# Altium footprint library PcbLib1.PcbLib: 39 footprints (part 3 of 3)
Each footprint in its own frame and in the unit in brackets; x right, y up, seen from the top. Pads: shape width x height; smd on the part's side, far side on the other; paste and mask are expansions set on the pad; w line width, h text height; cw(c..) or ccw(c..) is an arc to the next point about the centre after c.
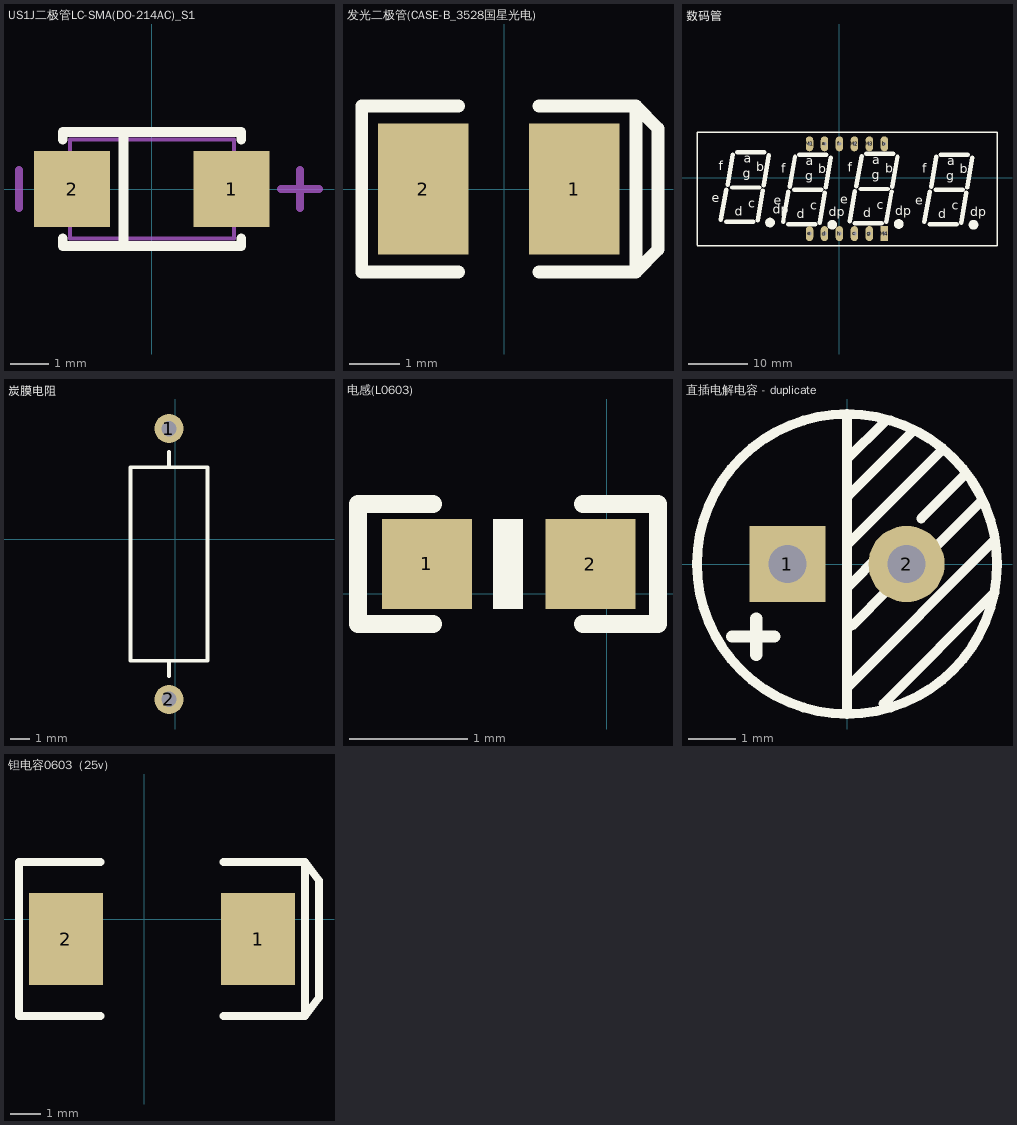
[diagram p2: the footprints below, top view; thin cyan lines are the x and y axes]

## US1J二极管LC-SMA(DO-214AC)_S1 [mm]
height 2.65
pads (2):
  rect 2x2 smd: 1(2.1,0) 2(-2.1,0)
Top Overlay:
  lines w0.254: -2.35,-1.3 -2.35,-1.5 2.35,-1.5 2.35,-1.3 ; -2.35,1.3 -2.35,1.5 2.35,1.5 2.35,1.3 ; -0.75,-1.5 -0.75,1.5
Mechanical 13:
  lines w0.1: -2.16,-1.3 -2.16,1.3 2.16,1.3 2.16,-1.3 -2.16,-1.3
Mechanical 15:
  lines w0.203: -3.5,-0.5 -3.5,0.5 ; 3.4,0 4.4,0 ; 3.9,-0.5 3.9,0.5

## 发光二极管(CASE-B_3528国星光电) [mm]
pads (2):
  rect 1.8x2.6 smd: 1(1.397,0) 2(-1.603,0)
Top Overlay:
  lines w0.254: -0.903,-1.65 -2.83,-1.65 -2.83,1.65 -0.903,1.65 ; 0.697,-1.65 2.624,-1.65 ; 0.697,1.65 2.624,1.65 ; 2.624,-1.65 3.06,-1.2 3.06,1.2 2.624,1.65 ; 2.624,-1.65 2.624,1.65
3D body "User Library-AVX_BCASE.STEP": height 2.03, standoff 0, extent -1.953,-1.465 1.747,1.465

## 数码管 [mil]
pads (12):
  oval 50x100 hole 25: a(-98,227) b(302,227) c(102,-373) d(-98,-373) e(-198,-373) f(2,227) g(202,-373) h(2,-373) M1(-198,227) M2(102,227) M3(202,227)
  rect 50x100 hole 25: M4(302,-373)
Top Overlay:
  circle w40: c898,-314 r12
  circle w40: c398,-309 r12
  circle w40: c-462,-299 r12
  circle w40: c-47,-314 r12
  lines w10: -950,-455 1055,-455 ; -950,-451 -950,305 1055,305 1055,-454
  lines w30: -790,-280 -755,-80 ; -755,-295 -575,-295 ; -745,-45 -710,155 ; -715,-65 -535,-65 ; -680,170 -500,170 ; -545,-285 -510,-85 ; -505,-50 -470,150 ; -375,-295 -340,-95 ; -340,-310 -160,-310 ; -330,-60 -295,140 ; -300,-80 -120,-80 ; -265,155 -85,155 ; -130,-300 -95,-100 ; -90,-65 -55,135 ; 70,-290 105,-90 ; 105,-305 285,-305 ; 115,-55 150,145 ; 145,-75 325,-75 ; 180,160 360,160 ; 315,-295 350,-95 ; 355,-60 390,140 ; 570,-295 605,-95 ; 605,-310 785,-310 ; 615,-60 650,140 ; 645,-80 825,-80 ; 680,155 860,155 ; 815,-300 850,-100 ; 855,-65 890,135
  text "f" at 557,35 h60
  text "b" at 807,30 h60
  text "g" at 717,-15 h60
  text "a" at 722,85 h60
  text "d" at 662,-270 h60
  text "e" at 507,-180 h60
  text "dp" at 876,-257 h60
  text "c" at 752,-215 h60
  text "f" at 57,40 h60
  text "b" at 307,35 h60
  text "g" at 217,-10 h60
  text "a" at 222,90 h60
  text "d" at 162,-265 h60
  text "e" at 7,-175 h60
  text "dp" at 376,-252 h60
  text "c" at 252,-210 h60
  text "f" at -803,50 h60
  text "b" at -553,45 h60
  text "g" at -643,0 h60
  text "a" at -638,100 h60
  text "d" at -698,-255 h60
  text "e" at -853,-165 h60
  text "dp" at -444,-242 h60
  text "c" at -608,-200 h60
  text "f" at -388,35 h60
  text "b" at -138,30 h60
  text "g" at -228,-15 h60
  text "a" at -223,85 h60
  text "d" at -283,-270 h60
  text "e" at -438,-180 h60
  text "dp" at -69,-257 h60
  text "c" at -193,-215 h60

## 炭膜电阻 [mm]
pads (2):
  round 1.5 / inner oval 2x1.5 / far side round 1.5 hole 0.8: 1(-0.327,5.725)
  round 1.5 hole 0.8: 2(-0.327,-8.275)
Top Overlay:
  lines w0.203: -0.327,-7.075 -0.327,-6.275 ; -0.327,3.725 -0.327,4.525 ; -2.327,-6.275 1.673,-6.275 1.673,3.725 -2.327,3.725 -2.327,-6.275

## 电感(L0603) [mil]
pads (2):
  rect 30x30 smd: 1(-60,10) 2(-5.5,9.94)
Top Overlay:
  region: -28,-5.06 -28,24.94 -38,24.94 -38,-5.06
  lines w6: -58,-10.06 -83,-10.06 -83,29.94 -58,29.94 ; -8,-10.06 17,-10.06 17,29.94 -8,29.94

## 直插电解电容 - duplicate [mm]
height 2.65
pads (2):
  rect 1.6x1.6 hole 0.8: 1(-1.25,0)
  round 1.6 hole 0.8: 2(1.25,0)
Top Overlay:
  circle w0.203: c0,0 r3.15
  lines w0.203: 0,-3.1 0,3.1 ; 0,-2.6 3.1,0.5 ; 0.015,2.215 0.777,2.977 ; 0.034,1.434 1.38,2.78 ; 0.05,-0.45 0.677,0.177 ; 0.051,0.451 2.007,2.407 ; 0.1,-1.3 0.883,-0.517 ; 0.765,-2.935 3.1,-0.6 ; 1.556,0.956 2.445,1.845 ; 1.85,0.35 2.771,1.271
  lines w0.254: -2.413,-1.524 -2.159,-1.524 -1.524,-1.524 -1.841,-1.524 -1.905,-1.46 -1.905,-1.905 -1.905,-1.143

## 钽电容0603（25v） [mm]
pads (2):
  rect 2.4x3 smd: 1(3.7,-0.635) 2(-2.54,-0.635)
Top Overlay:
  lines w0.254: -1.42,-3.135 -4.067,-3.135 -4.067,1.865 -1.42,1.865 ; 2.58,-3.135 5.227,-3.135 ; 2.58,1.865 5.227,1.865 ; 5.227,-3.135 5.227,1.865 ; 5.227,-3.135 5.68,-2.535 5.68,1.265 5.227,1.865
3D body "User Library-AVX_D_CASE.STEP": height 3.01, standoff 0, extent -3.121,-2.86 4.28,1.59